# EAGLE library part LIDAR-CONNECTOR (library (custom)-connectors-and-modules)
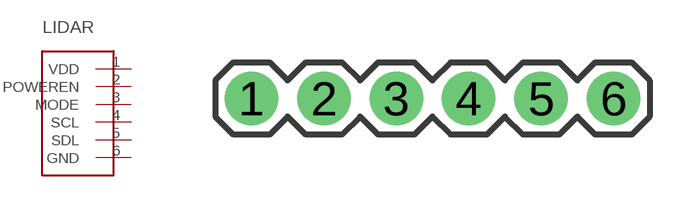
[diagram p3: symbol with the pads of 1X06; footprint 1X06]

Designator prefix LIDAR

## LIDAR-CONNECTOR  [1X06]
1  VDD
2  POWEREN
3  MODE
4  SCL
5  SDL
6  GND

## Footprint 1X06 (pad centres in mm)
drill 1.016 pad 1.88: 1 0,0; 2 2.54,0; 3 5.08,0; 4 7.62,0; 5 10.16,0; 6 12.7,0